# Altium schematic symbol library ANT162442ST-1000AM1.SchLib: 1 symbol
Pins are listed as number, name and electrical type; pins without a type are passive.

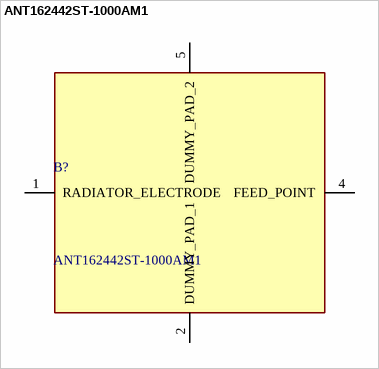
[diagram p0: symbol ANT162442ST-1000AM1]

## ANT162442ST-1000AM1
designator B?
Antenna Multilayer 2484MHz Automotive 6-Pin Case 0603(1608Metric) T/R, 2400 to 2484MHz, 3 at 2400 to 2484MHz, -40 to 85C; Manufacturer_Name: TDK; Geometry.Height: 0.4mm; Mouser Part Number: 810-ANT162442ST10AM1; Mouser Price/Stock: https://www.mouser.co.uk/ProductDetail/TDK/ANT162442ST-1000AM1?qs=OlC7AqGiEDneGgfYOKlmmw%3D%3D; Manufacturer_Part_Number: ANT162442ST-1000AM1; Datasheet Link: https://product.tdk.com/system/files/dam/doc/product/rf/rf/antenna/catalog/rf_ant_ant162442st-1000am1_summary_en.pdf
footprint ANT162442ST1000AM1
pins: 1 RADIATOR_ELECTRODE, 2 DUMMY_PAD_1, 4 FEED_POINT, 5 DUMMY_PAD_2